# EAGLE library part STM32F050G6 (library Virulent_HW)
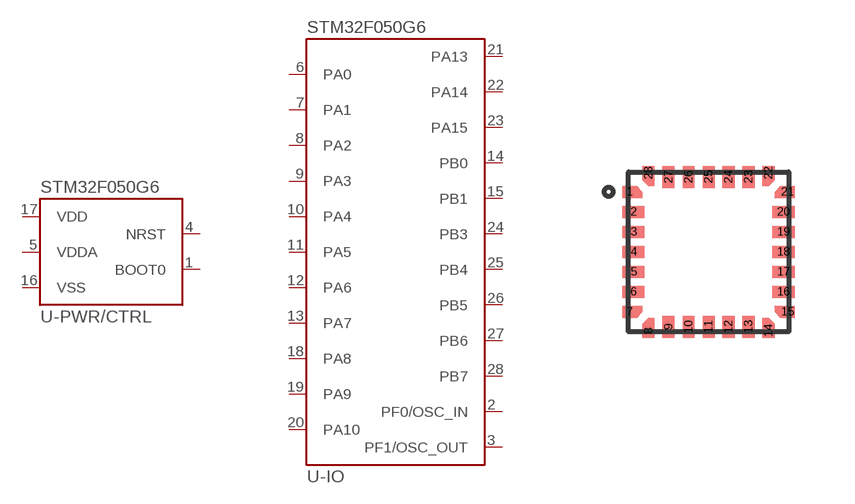
[diagram p25: symbol with the pads of UQFPN-28; footprint UQFPN-28]

Designator prefix U; gates -PWR/CTRL=STM32F050G6PWR/CTRL -IO=STM32F050G6IO

## STM32F050G6U6  [UQFPN-28]
1  -PWR/CTRL:BOOT0
2  -IO:PF0/OSC_IN
3  -IO:PF1/OSC_OUT
4  -PWR/CTRL:NRST
5  -PWR/CTRL:VDDA  pwr
6  -IO:PA0
7  -IO:PA1
8  -IO:PA2
9  -IO:PA3
10  -IO:PA4
11  -IO:PA5
12  -IO:PA6
13  -IO:PA7
14  -IO:PB0
15  -IO:PB1
16  -PWR/CTRL:VSS  pwr
17  -PWR/CTRL:VDD  pwr
18  -IO:PA8
19  -IO:PA9
20  -IO:PA10
21  -IO:PA13
22  -IO:PA14
23  -IO:PA15
24  -IO:PB3
25  -IO:PB4
26  -IO:PB5
27  -IO:PB6
28  -IO:PB7

## Footprint UQFPN-28 (pad centres in mm)
smd 0.35 x 0.3: 1 -1.975,1.5; 7 -1.975,-1.5; 15 1.975,-1.5; 21 1.975,1.5
smd 0.55 x 0.3: 2 -1.875,1; 3 -1.875,0.5; 4 -1.875,0; 5 -1.875,-0.5; 6 -1.875,-1; 16 1.875,-1; 17 1.875,-0.5; 18 1.875,0; 19 1.875,0.5; 20 1.875,1
smd 0.3 x 0.35: 8 -1.5,-1.975; 14 1.5,-1.975; 22 1.5,1.975; 28 -1.5,1.975
smd 0.3 x 0.55: 9 -1,-1.875; 10 -0.5,-1.875; 11 0,-1.875; 12 0.5,-1.875; 13 1,-1.875; 23 1,1.875; 24 0.5,1.875; 25 0,1.875; 26 -0.5,1.875; 27 -1,1.875